# Altium integrated library Capacitor - Ceramic - Sumsung.IntLib: 1421 symbols (part 18 of 22)
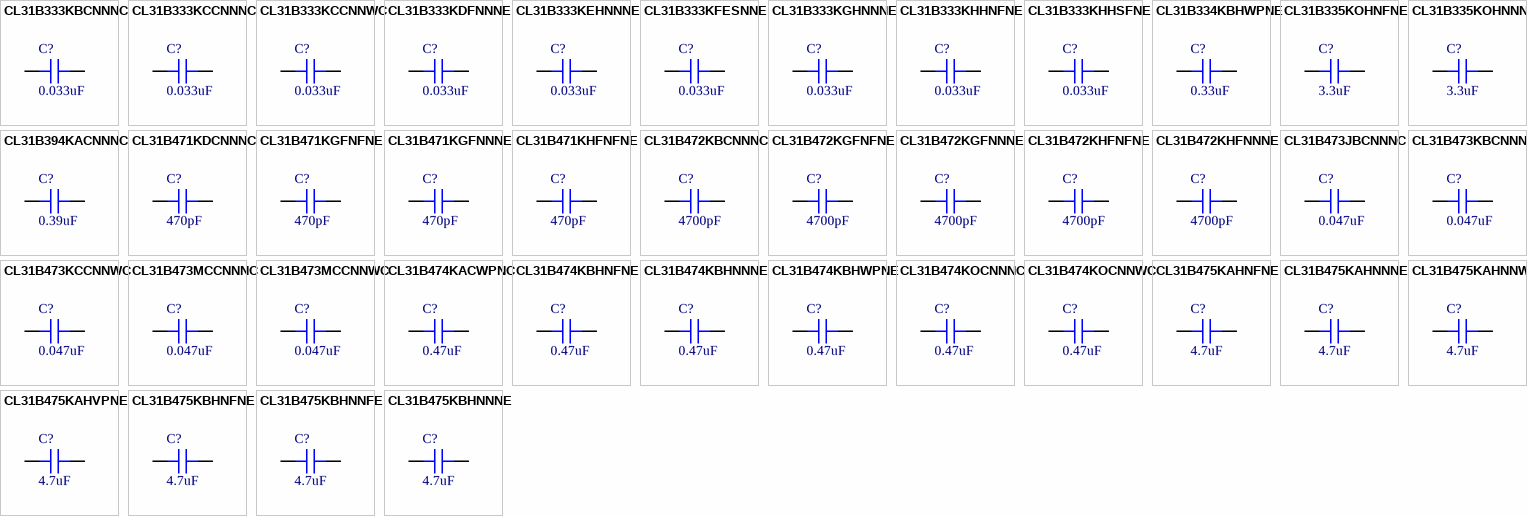
[diagram p52: symbols CL31B333KBCNNNC to CL31B475KBHNNNE]

## CL31B472KBCNNNC
designator C?, comment 4700pF
CAP CER 4700PF 50V X7R 1206; Part Number: CL31B472KBCNNNC; Manufacturer: Samsung Electro-Mechanics America, Inc.; TemperatureRange: -55C ~ 125C; Tolerance: 10%; Value: 4700pF; PartId: 17145; Supplier 1: Digi-Key; Supplier Part Number 1: 1276-1309-2-ND; ComponentLink1Description: Datasheet; ComponentLink1URL: http://www.samsungsem.com/kr/support/product-search/mlcc/__icsFiles/afieldfile/2016/08/18/S_CL31B472KBCNNNC.pdf; ComponentLink2Description: Digi-Key Listing; ComponentLink2URL: https://www.digikey.com/product-detail/en/samsung-electro-mechanics-america-inc/CL31B472KBCNNNC/1276-1309-2-ND/3886967; TemperatureCoefficient: X7R; Voltage: 50V; Price: 0.0297; Device Package: 1206 (3216 Metric)
footprint CAP 1206/3216 - 1.0MM
pins: 1, 2

## CL31B472KGFNFNE
designator C?, comment 4700pF
CAP CER 4700PF 500V X7R 1206; Part Number: CL31B472KGFNFNE; Manufacturer: Samsung Electro-Mechanics America, Inc.; TemperatureRange: -55C ~ 125C; Tolerance: 10%; Value: 4700pF; PartId: 15504; Supplier 1: Digi-Key; Supplier Part Number 1: 1276-3166-2-ND; ComponentLink1Description: Datasheet; ComponentLink1URL: //media.digikey.com/pdf/Data%20Sheets/Samsung%20PDFs/CL31B472KGFNFNE_Spec.pdf; ComponentLink2Description: Digi-Key Listing; ComponentLink2URL: https://www.digikey.com/product-detail/en/samsung-electro-mechanics-america-inc/CL31B472KGFNFNE/1276-3166-2-ND/3888824; TemperatureCoefficient: X7R; Voltage: 500V; Price: 0.053; Device Package: 1206 (3216 Metric)
footprint CAP 1206/3216
pins: 1, 2

## CL31B472KGFNNNE
designator C?, comment 4700pF
CAP CER 4700PF 500V X7R 1206; Part Number: CL31B472KGFNNNE; Manufacturer: Samsung Electro-Mechanics America, Inc.; TemperatureRange: -55C ~ 125C; Tolerance: 10%; Value: 4700pF; PartId: 15406; Supplier 1: Digi-Key; Supplier Part Number 1: 1276-3167-2-ND; ComponentLink1Description: Datasheet; ComponentLink1URL: //media.digikey.com/pdf/Data%20Sheets/Samsung%20PDFs/CL31B472KGFNNNE_Spec.pdf; ComponentLink2Description: Digi-Key Listing; ComponentLink2URL: https://www.digikey.com/product-detail/en/samsung-electro-mechanics-america-inc/CL31B472KGFNNNE/1276-3167-2-ND/3888825; TemperatureCoefficient: X7R; Voltage: 500V; Price: 0.053; Device Package: 1206 (3216 Metric)
footprint CAP 1206/3216
pins: 1, 2

## CL31B472KHFNFNE
designator C?, comment 4700pF
CAP CER 4700PF 630V X7R 1206; Part Number: CL31B472KHFNFNE; Manufacturer: Samsung Electro-Mechanics America, Inc.; TemperatureRange: -55C ~ 125C; Tolerance: 10%; Value: 4700pF; PartId: 15480; Supplier 1: Digi-Key; Supplier Part Number 1: 1276-3168-2-ND; ComponentLink1Description: Datasheet; ComponentLink1URL: //media.digikey.com/pdf/Data%20Sheets/Samsung%20PDFs/CL31B472KHFNFNE_Spec.pdf; ComponentLink2Description: Digi-Key Listing; ComponentLink2URL: https://www.digikey.com/product-detail/en/samsung-electro-mechanics-america-inc/CL31B472KHFNFNE/1276-3168-2-ND/3888826; TemperatureCoefficient: X7R; Voltage: 630V; Price: 0.054; Device Package: 1206 (3216 Metric)
footprint CAP 1206/3216
pins: 1, 2

## CL31B472KHFNNNE
designator C?, comment 4700pF
CAP CER 4700PF 630V X7R 1206; Part Number: CL31B472KHFNNNE; Manufacturer: Samsung Electro-Mechanics America, Inc.; TemperatureRange: -55C ~ 125C; Tolerance: 10%; Value: 4700pF; PartId: 15481; Supplier 1: Digi-Key; Supplier Part Number 1: 1276-3169-2-ND; ComponentLink1Description: Datasheet; ComponentLink1URL: //media.digikey.com/pdf/Data%20Sheets/Samsung%20PDFs/CL31B472KHFNNNE_Spec.pdf; ComponentLink2Description: Digi-Key Listing; ComponentLink2URL: https://www.digikey.com/product-detail/en/samsung-electro-mechanics-america-inc/CL31B472KHFNNNE/1276-3169-2-ND/3888827; TemperatureCoefficient: X7R; Voltage: 630V; Price: 0.054; Device Package: 1206 (3216 Metric)
footprint CAP 1206/3216
pins: 1, 2

## CL31B473JBCNNNC
designator C?, comment 0.047uF
CAP CER 0.047UF 50V X7R 1206; Part Number: CL31B473JBCNNNC; Manufacturer: Samsung Electro-Mechanics America, Inc.; TemperatureRange: -55C ~ 125C; Tolerance: 5%; Value: 0.047uF; PartId: 17101; Supplier 1: Digi-Key; Supplier Part Number 1: 1276-2781-2-ND; ComponentLink1Description: Datasheet; ComponentLink1URL: http://www.samsungsem.com/kr/support/product-search/mlcc/__icsFiles/afieldfile/2016/08/18/S_CL31B473JBCNNNC.pdf; ComponentLink2Description: Digi-Key Listing; ComponentLink2URL: https://www.digikey.com/product-detail/en/samsung-electro-mechanics-america-inc/CL31B473JBCNNNC/1276-2781-2-ND/3888439; TemperatureCoefficient: X7R; Voltage: 50V; Price: 0.0697; Device Package: 1206 (3216 Metric)
footprint CAP 1206/3216 - 1.0MM
pins: 1, 2

## CL31B473KBCNNNC
designator C?, comment 0.047uF
CAP CER 0.047UF 50V X7R 1206; Part Number: CL31B473KBCNNNC; Manufacturer: Samsung Electro-Mechanics America, Inc.; TemperatureRange: -55C ~ 125C; Tolerance: 10%; Value: 0.047uF; PartId: 16998; Supplier 1: Digi-Key; Supplier Part Number 1: 1276-1149-2-ND; ComponentLink1Description: Datasheet; ComponentLink1URL: http://www.samsungsem.com/kr/support/product-search/mlcc/__icsFiles/afieldfile/2016/08/18/S_CL31B473KBCNNNC.pdf; ComponentLink2Description: Digi-Key Listing; ComponentLink2URL: https://www.digikey.com/product-detail/en/samsung-electro-mechanics-america-inc/CL31B473KBCNNNC/1276-1149-2-ND/3886807; TemperatureCoefficient: X7R; Voltage: 50V; Price: 0.0371; Device Package: 1206 (3216 Metric)
footprint CAP 1206/3216 - 1.0MM
pins: 1, 2

## CL31B473KCCNNWC
designator C?, comment 0.047uF
CAP CER 0.047UF 100V X7R 1206; Part Number: CL31B473KCCNNWC; Manufacturer: Samsung Electro-Mechanics America, Inc.; TemperatureRange: -55C ~ 125C; Tolerance: 10%; Value: 0.047uF; PartId: 17278; Supplier 1: Digi-Key; Supplier Part Number 1: 1276-2783-2-ND; ComponentLink1Description: Datasheet; ComponentLink1URL: //media.digikey.com/pdf/Data%20Sheets/Samsung%20PDFs/CL31B473KCCNNWC_Spec.pdf; ComponentLink2Description: Digi-Key Listing; ComponentLink2URL: https://www.digikey.com/product-detail/en/samsung-electro-mechanics-america-inc/CL31B473KCCNNWC/1276-2783-2-ND/3888441; TemperatureCoefficient: X7R; Voltage: 100V; Price: 0.0467; Device Package: 1206 (3216 Metric)
footprint CAP 1206/3216 - 1.0MM
pins: 1, 2

## CL31B473MCCNNNC
designator C?, comment 0.047uF
CAP CER 0.047UF 100V X7R 1206; Part Number: CL31B473MCCNNNC; Manufacturer: Samsung Electro-Mechanics America, Inc.; TemperatureRange: -55C ~ 125C; Tolerance: 20%; Value: 0.047uF; PartId: 17277; Supplier 1: Digi-Key; Supplier Part Number 1: 1276-2785-2-ND; ComponentLink1Description: Datasheet; ComponentLink1URL: //media.digikey.com/pdf/Data%20Sheets/Samsung%20PDFs/MLCC_Catalog_2015.pdf; ComponentLink2Description: Digi-Key Listing; ComponentLink2URL: https://www.digikey.com/product-detail/en/samsung-electro-mechanics-america-inc/CL31B473MCCNNNC/1276-2785-2-ND/3888443; TemperatureCoefficient: X7R; Voltage: 100V; Price: 0.0467; Device Package: 1206 (3216 Metric)
footprint CAP 1206/3216 - 1.0MM
pins: 1, 2

## CL31B473MCCNNWC
designator C?, comment 0.047uF
CAP CER 0.047UF 100V X7R 1206; Part Number: CL31B473MCCNNWC; Manufacturer: Samsung Electro-Mechanics America, Inc.; TemperatureRange: -55C ~ 125C; Tolerance: 20%; Value: 0.047uF; PartId: 17308; Supplier 1: Digi-Key; Supplier Part Number 1: 1276-2786-2-ND; ComponentLink1Description: Datasheet; ComponentLink1URL: //media.digikey.com/pdf/Data%20Sheets/Samsung%20PDFs/CL31B473MCCNNWC_Spec.pdf; ComponentLink2Description: Digi-Key Listing; ComponentLink2URL: https://www.digikey.com/product-detail/en/samsung-electro-mechanics-america-inc/CL31B473MCCNNWC/1276-2786-2-ND/3888444; TemperatureCoefficient: X7R; Voltage: 100V; Price: 0.0433; Device Package: 1206 (3216 Metric)
footprint CAP 1206/3216 - 1.0MM
pins: 1, 2

## CL31B474KACWPNC
designator C?, comment 0.47uF
CAP CER 0.47UF 25V X7R 1206; Part Number: CL31B474KACWPNC; Manufacturer: Samsung Electro-Mechanics America, Inc.; TemperatureRange: -55C ~ 125C; Tolerance: 10%; Value: 0.47uF; PartId: 17354; Supplier 1: Digi-Key; Supplier Part Number 1: 1276-6732-2-ND; ComponentLink1Description: Datasheet; ComponentLink1URL: //media.digikey.com/pdf/Data%20Sheets/Samsung%20PDFs/MLCC_Catalog_2015.pdf; ComponentLink2Description: Digi-Key Listing; ComponentLink2URL: https://www.digikey.com/product-detail/en/samsung-electro-mechanics-america-inc/CL31B474KACWPNC/1276-6732-2-ND/5961216; TemperatureCoefficient: X7R; Voltage: 25V; Price: 0.0498; Device Package: 1206 (3216 Metric)
footprint CAP 1206/3216 - 1.0MM
pins: 1, 2

## CL31B474KBHNFNE
designator C?, comment 0.47uF
CAP CER 0.47UF 50V X7R 1206; Part Number: CL31B474KBHNFNE; Manufacturer: Samsung Electro-Mechanics America, Inc.; TemperatureRange: -55C ~ 125C; Tolerance: 10%; Value: 0.47uF; PartId: 17697; Supplier 1: Digi-Key; Supplier Part Number 1: 1276-3175-2-ND; ComponentLink1Description: Datasheet; ComponentLink1URL: //media.digikey.com/pdf/Data%20Sheets/Samsung%20PDFs/CL31B474KBHNFNE_Spec.pdf; ComponentLink2Description: Digi-Key Listing; ComponentLink2URL: https://www.digikey.com/product-detail/en/samsung-electro-mechanics-america-inc/CL31B474KBHNFNE/1276-3175-2-ND/3888833; TemperatureCoefficient: X7R; Voltage: 50V; Price: 0.06; Device Package: 1206 (3216 Metric)
footprint CAP 1206/3216 - 1.8MM
pins: 1, 2

## CL31B474KBHNNNE
designator C?, comment 0.47uF
CAP CER 0.47UF 50V X7R 1206; Part Number: CL31B474KBHNNNE; Manufacturer: Samsung Electro-Mechanics America, Inc.; TemperatureRange: -55C ~ 125C; Tolerance: 10%; Value: 0.47uF; PartId: 17394; Supplier 1: Digi-Key; Supplier Part Number 1: 1276-1118-2-ND; ComponentLink1Description: Datasheet; ComponentLink1URL: http://www.samsungsem.com/kr/support/product-search/mlcc/__icsFiles/afieldfile/2016/08/18/S_CL31B474KBHNNNE.pdf; ComponentLink2Description: Digi-Key Listing; ComponentLink2URL: https://www.digikey.com/product-detail/en/samsung-electro-mechanics-america-inc/CL31B474KBHNNNE/1276-1118-2-ND/3886776; TemperatureCoefficient: X7R; Voltage: 50V; Price: 0.06; Device Package: 1206 (3216 Metric)
footprint CAP 1206/3216 - 1.8MM
pins: 1, 2

## CL31B474KBHWPNE
designator C?, comment 0.47uF
CAP CER 0.47UF 50V X7R 1206; Part Number: CL31B474KBHWPNE; Manufacturer: Samsung Electro-Mechanics America, Inc.; TemperatureRange: -55C ~ 125C; Tolerance: 10%; Value: 0.47uF; PartId: 17585; Supplier 1: Digi-Key; Supplier Part Number 1: 1276-6743-2-ND; ComponentLink1Description: Datasheet; ComponentLink1URL: //media.digikey.com/pdf/Data%20Sheets/Samsung%20PDFs/MLCC_Catalog_2015.pdf; ComponentLink2Description: Digi-Key Listing; ComponentLink2URL: https://www.digikey.com/product-detail/en/samsung-electro-mechanics-america-inc/CL31B474KBHWPNE/1276-6743-2-ND/5961227; TemperatureCoefficient: X7R; Voltage: 50V; Price: 0.0662; Device Package: 1206 (3216 Metric)
footprint CAP 1206/3216 - 1.8MM
pins: 1, 2

## CL31B474KOCNNNC
designator C?, comment 0.47uF
CAP CER 0.47UF 16V X7R 1206; Part Number: CL31B474KOCNNNC; Manufacturer: Samsung Electro-Mechanics America, Inc.; TemperatureRange: -55C ~ 125C; Tolerance: 10%; Value: 0.47uF; PartId: 17281; Supplier 1: Digi-Key; Supplier Part Number 1: 1276-2787-2-ND; ComponentLink1Description: Datasheet; ComponentLink1URL: http://www.samsungsem.com/kr/support/product-search/mlcc/__icsFiles/afieldfile/2016/08/18/S_CL31B474KOCNNNC.pdf; ComponentLink2Description: Digi-Key Listing; ComponentLink2URL: https://www.digikey.com/product-detail/en/samsung-electro-mechanics-america-inc/CL31B474KOCNNNC/1276-2787-2-ND/3888445; TemperatureCoefficient: X7R; Voltage: 16V; Price: 0.0545; Device Package: 1206 (3216 Metric)
footprint CAP 1206/3216 - 1.0MM
pins: 1, 2

## CL31B474KOCNNWC
designator C?, comment 0.47uF
CAP CER 0.47UF 16V X7R 1206; Part Number: CL31B474KOCNNWC; Manufacturer: Samsung Electro-Mechanics America, Inc.; TemperatureRange: -55C ~ 125C; Tolerance: 10%; Value: 0.47uF; PartId: 17276; Supplier 1: Digi-Key; Supplier Part Number 1: 1276-2788-2-ND; ComponentLink1Description: Datasheet; ComponentLink1URL: http://www.samsungsem.com/kr/support/product-search/mlcc/__icsFiles/afieldfile/2016/08/18/S_CL31B474KOCNNWC.pdf; ComponentLink2Description: Digi-Key Listing; ComponentLink2URL: https://www.digikey.com/product-detail/en/samsung-electro-mechanics-america-inc/CL31B474KOCNNWC/1276-2788-2-ND/3888446; TemperatureCoefficient: X7R; Voltage: 16V; Price: 0.0545; Device Package: 1206 (3216 Metric)
footprint CAP 1206/3216 - 1.0MM
pins: 1, 2

## CL31B475KAHNFNE
designator C?, comment 4.7uF
CAP CER 4.7UF 25V X7R 1206; Part Number: CL31B475KAHNFNE; Manufacturer: Samsung Electro-Mechanics America, Inc.; TemperatureRange: -55C ~ 125C; Tolerance: 10%; Value: 4.7uF; PartId: 17973; Supplier 1: Digi-Key; Supplier Part Number 1: 1276-3177-2-ND; ComponentLink1Description: Datasheet; ComponentLink1URL: //media.digikey.com/pdf/Data%20Sheets/Samsung%20PDFs/CL31B475KAHNFNE_Spec.pdf; ComponentLink2Description: Digi-Key Listing; ComponentLink2URL: https://www.digikey.com/product-detail/en/samsung-electro-mechanics-america-inc/CL31B475KAHNFNE/1276-3177-2-ND/3888835; TemperatureCoefficient: X7R; Voltage: 25V; Price: 0.0761; Device Package: 1206 (3216 Metric)
footprint CAP 1206/3216 - 1.8MM
pins: 1, 2

## CL31B475KAHNNNE
designator C?, comment 4.7uF
CAP CER 4.7UF 25V X7R 1206; Part Number: CL31B475KAHNNNE; Manufacturer: Samsung Electro-Mechanics America, Inc.; TemperatureRange: -55C ~ 125C; Tolerance: 10%; Value: 4.7uF; PartId: 17424; Supplier 1: Digi-Key; Supplier Part Number 1: 1276-1055-2-ND; ComponentLink1Description: Datasheet; ComponentLink1URL: http://www.samsungsem.com/kr/front/downloadcms.do?path=/kr/support/product-search/mlcc/__icsFiles/afieldfile/2014/11/05&fileName=C_CL31B475KAHNNNE.pdf; ComponentLink2Description: Digi-Key Listing; ComponentLink2URL: https://www.digikey.com/product-detail/en/samsung-electro-mechanics-america-inc/CL31B475KAHNNNE/1276-1055-2-ND/3886713; TemperatureCoefficient: X7R; Voltage: 25V; Price: 0.0761; Device Package: 1206 (3216 Metric)
footprint CAP 1206/3216 - 1.8MM
pins: 1, 2

## CL31B475KAHNNWE
designator C?, comment 4.7uF
CAP CER 4.7UF 25V X7R 1206; Part Number: CL31B475KAHNNWE; Manufacturer: Samsung Electro-Mechanics America, Inc.; TemperatureRange: -55C ~ 125C; Tolerance: 10%; Value: 4.7uF; PartId: 17895; Supplier 1: Digi-Key; Supplier Part Number 1: 1276-3178-2-ND; ComponentLink1Description: Datasheet; ComponentLink1URL: http://www.samsungsem.com/kr/front/downloadcms.do?path=/kr/support/product-search/mlcc/__icsFiles/afieldfile/2014/11/05&fileName=C_CL31B475KAHNNWE.pdf; ComponentLink2Description: Digi-Key Listing; ComponentLink2URL: https://www.digikey.com/product-detail/en/samsung-electro-mechanics-america-inc/CL31B475KAHNNWE/1276-3178-2-ND/3888836; TemperatureCoefficient: X7R; Voltage: 25V; Price: 0.0761; Device Package: 1206 (3216 Metric)
footprint CAP 1206/3216 - 1.8MM
pins: 1, 2

## CL31B475KAHVPNE
designator C?, comment 4.7uF
CAP CER 4.7UF 25V X7R 1206; Part Number: CL31B475KAHVPNE; Manufacturer: Samsung Electro-Mechanics America, Inc.; TemperatureRange: -55C ~ 125C; Tolerance: 10%; Value: 4.7uF; PartId: 17757; Supplier 1: Digi-Key; Supplier Part Number 1: 1276-6706-2-ND; ComponentLink1Description: Datasheet; ComponentLink1URL: //media.digikey.com/pdf/Data%20Sheets/Samsung%20PDFs/MLCC_Catalog_2015.pdf; ComponentLink2Description: Digi-Key Listing; ComponentLink2URL: https://www.digikey.com/product-detail/en/samsung-electro-mechanics-america-inc/CL31B475KAHVPNE/1276-6706-2-ND/5961190; TemperatureCoefficient: X7R; Voltage: 25V; Price: 0.0851; Device Package: 1206 (3216 Metric)
footprint CAP 1206/3216 - 1.8MM
pins: 1, 2

## CL31B475KBHNFNE
designator C?, comment 4.7uF
CAP CER 4.7UF 50V X7R 1206; Part Number: CL31B475KBHNFNE; Manufacturer: Samsung Electro-Mechanics America, Inc.; TemperatureRange: -55C ~ 125C; Tolerance: 10%; Value: 4.7uF; PartId: 17560; Supplier 1: Digi-Key; Supplier Part Number 1: 1276-3179-2-ND; ComponentLink1Description: Datasheet; ComponentLink1URL: //media.digikey.com/pdf/Data%20Sheets/Samsung%20PDFs/CL31B475KBHNFNE_Spec.pdf; ComponentLink2Description: Digi-Key Listing; ComponentLink2URL: https://www.digikey.com/product-detail/en/samsung-electro-mechanics-america-inc/CL31B475KBHNFNE/1276-3179-2-ND/3888837; TemperatureCoefficient: X7R; Voltage: 50V; Price: 0.1294; Device Package: 1206 (3216 Metric)
footprint CAP 1206/3216 - 1.8MM
pins: 1, 2

## CL31B475KBHNNFE
designator C?, comment 4.7uF
CAP CER 4.7UF 50V X7R 1206; Part Number: CL31B475KBHNNFE; Manufacturer: Samsung Electro-Mechanics America, Inc.; TemperatureRange: -55C ~ 125C; Tolerance: 10%; Value: 4.7uF; PartId: 17640; Supplier 1: Digi-Key; Supplier Part Number 1: 1276-3180-2-ND; ComponentLink1Description: Datasheet; ComponentLink1URL: http://www.samsungsem.com/kr/support/product-search/mlcc/__icsFiles/afieldfile/2016/08/18/S_CL31B475KBHNNFE.pdf; ComponentLink2Description: Digi-Key Listing; ComponentLink2URL: https://www.digikey.com/product-detail/en/samsung-electro-mechanics-america-inc/CL31B475KBHNNFE/1276-3180-2-ND/3888838; TemperatureCoefficient: X7R; Voltage: 50V; Price: 0.1625; Device Package: 1206 (3216 Metric)
footprint CAP 1206/3216 - 1.8MM
pins: 1, 2

## CL31B475KBHNNNE
designator C?, comment 4.7uF
CAP CER 4.7UF 50V X7R 1206; Part Number: CL31B475KBHNNNE; Manufacturer: Samsung Electro-Mechanics America, Inc.; TemperatureRange: -55C ~ 125C; Tolerance: 10%; Value: 4.7uF; PartId: 17442; Supplier 1: Digi-Key; Supplier Part Number 1: 1276-2789-2-ND; ComponentLink1Description: Datasheet; ComponentLink1URL: http://www.samsungsem.com/kr/support/product-search/mlcc/__icsFiles/afieldfile/2016/08/18/S_CL31B475KBHNNNE.pdf; ComponentLink2Description: Digi-Key Listing; ComponentLink2URL: https://www.digikey.com/product-detail/en/samsung-electro-mechanics-america-inc/CL31B475KBHNNNE/1276-2789-2-ND/3888447; TemperatureCoefficient: X7R; Voltage: 50V; Price: 0.1053; Device Package: 1206 (3216 Metric)
footprint CAP 1206/3216 - 1.8MM
pins: 1, 2

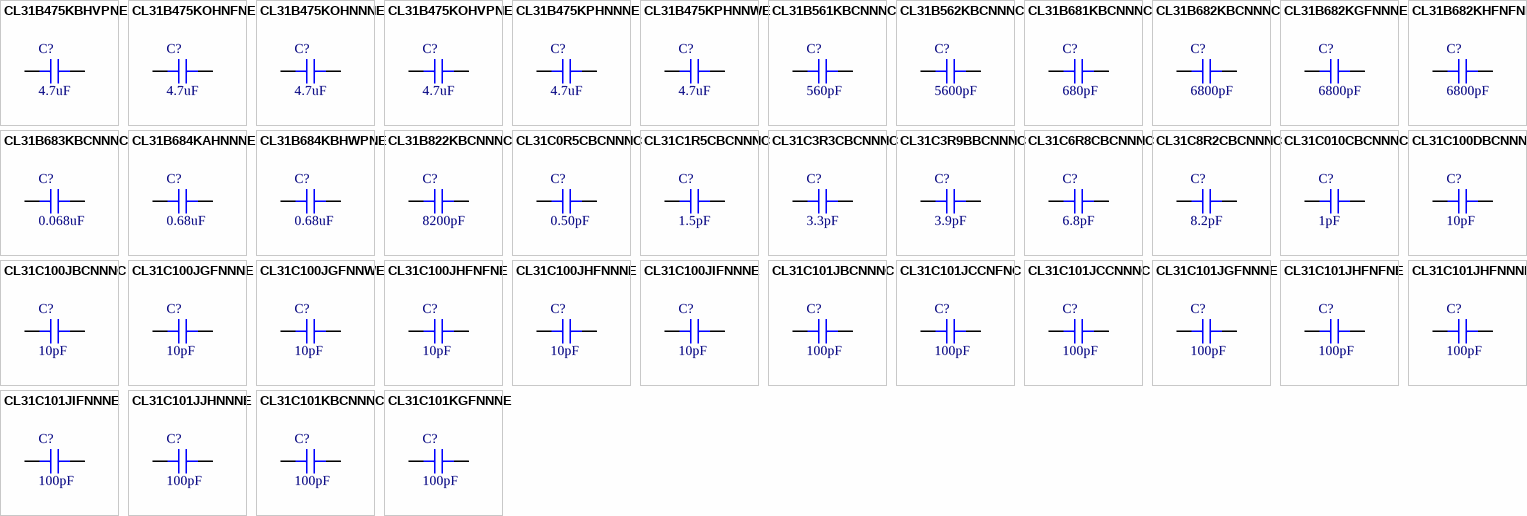
[diagram p29: symbols CL31B475KBHVPNE to CL31C101KGFNNNE]

## CL31B475KBHVPNE
designator C?, comment 4.7uF
CAP CER 4.7UF 50V X7R 1206; Part Number: CL31B475KBHVPNE; Manufacturer: Samsung Electro-Mechanics America, Inc.; TemperatureRange: -55C ~ 125C; Tolerance: 10%; Value: 4.7uF; PartId: 17453; Supplier 1: Digi-Key; Supplier Part Number 1: 1276-6781-2-ND; ComponentLink1Description: Datasheet; ComponentLink1URL: //media.digikey.com/pdf/Data%20Sheets/Samsung%20PDFs/MLCC_Catalog_2015.pdf; ComponentLink2Description: Digi-Key Listing; ComponentLink2URL: https://www.digikey.com/product-detail/en/samsung-electro-mechanics-america-inc/CL31B475KBHVPNE/1276-6781-2-ND/5961265; TemperatureCoefficient: X7R; Voltage: 50V; Price: 0.1446; Device Package: 1206 (3216 Metric)
footprint CAP 1206/3216 - 1.8MM
pins: 1, 2

## CL31B475KOHNFNE
designator C?, comment 4.7uF
CAP CER 4.7UF 16V X7R 1206; Part Number: CL31B475KOHNFNE; Manufacturer: Samsung Electro-Mechanics America, Inc.; TemperatureRange: -55C ~ 125C; Tolerance: 10%; Value: 4.7uF; PartId: 17972; Supplier 1: Digi-Key; Supplier Part Number 1: 1276-3181-2-ND; ComponentLink1Description: Datasheet; ComponentLink1URL: //media.digikey.com/pdf/Data%20Sheets/Samsung%20PDFs/CL31B475KOHNFNE_Spec.pdf; ComponentLink2Description: Digi-Key Listing; ComponentLink2URL: https://www.digikey.com/product-detail/en/samsung-electro-mechanics-america-inc/CL31B475KOHNFNE/1276-3181-2-ND/3888839; TemperatureCoefficient: X7R; Voltage: 16V; Price: 0.0761; Device Package: 1206 (3216 Metric)
footprint CAP 1206/3216 - 1.8MM
pins: 1, 2

## CL31B475KOHNNNE
designator C?, comment 4.7uF
CAP CER 4.7UF 16V X7R 1206; Part Number: CL31B475KOHNNNE; Manufacturer: Samsung Electro-Mechanics America, Inc.; TemperatureRange: -55C ~ 125C; Tolerance: 10%; Value: 4.7uF; PartId: 17971; Supplier 1: Digi-Key; Supplier Part Number 1: 1276-3182-2-ND; ComponentLink1Description: Datasheet; ComponentLink1URL: //media.digikey.com/pdf/Data%20Sheets/Samsung%20PDFs/CL31B475KOHNNNE_Spec.pdf; ComponentLink2Description: Digi-Key Listing; ComponentLink2URL: https://www.digikey.com/product-detail/en/samsung-electro-mechanics-america-inc/CL31B475KOHNNNE/1276-3182-2-ND/3888840; TemperatureCoefficient: X7R; Voltage: 16V; Price: 0.0761; Device Package: 1206 (3216 Metric)
footprint CAP 1206/3216 - 1.8MM
pins: 1, 2

## CL31B475KOHVPNE
designator C?, comment 4.7uF
CAP CER 4.7UF 16V X7R 1206; Part Number: CL31B475KOHVPNE; Manufacturer: Samsung Electro-Mechanics America, Inc.; TemperatureRange: -55C ~ 125C; Tolerance: 10%; Value: 4.7uF; PartId: 17752; Supplier 1: Digi-Key; Supplier Part Number 1: 1276-6723-2-ND; ComponentLink1Description: Datasheet; ComponentLink1URL: //media.digikey.com/pdf/Data%20Sheets/Samsung%20PDFs/MLCC_Catalog_2015.pdf; ComponentLink2Description: Digi-Key Listing; ComponentLink2URL: https://www.digikey.com/product-detail/en/samsung-electro-mechanics-america-inc/CL31B475KOHVPNE/1276-6723-2-ND/5961207; TemperatureCoefficient: X7R; Voltage: 16V; Price: 0.0958; Device Package: 1206 (3216 Metric)
footprint CAP 1206/3216 - 1.8MM
pins: 1, 2

## CL31B475KPHNNNE
designator C?, comment 4.7uF
CAP CER 4.7UF 10V X7R 1206; Part Number: CL31B475KPHNNNE; Manufacturer: Samsung Electro-Mechanics America, Inc.; TemperatureRange: -55C ~ 125C; Tolerance: 10%; Value: 4.7uF; PartId: 17410; Supplier 1: Digi-Key; Supplier Part Number 1: 1276-1133-2-ND; ComponentLink1Description: Datasheet; ComponentLink1URL: http://www.samsungsem.com/kr/front/downloadcms.do?path=/kr/support/product-search/mlcc/__icsFiles/afieldfile/2014/11/05&fileName=C_CL31B475KPHNNNE.pdf; ComponentLink2Description: Digi-Key Listing; ComponentLink2URL: https://www.digikey.com/product-detail/en/samsung-electro-mechanics-america-inc/CL31B475KPHNNNE/1276-1133-2-ND/3886791; TemperatureCoefficient: X7R; Voltage: 10V; Price: 0.0761; Device Package: 1206 (3216 Metric)
footprint CAP 1206/3216 - 1.8MM
pins: 1, 2

## CL31B475KPHNNWE
designator C?, comment 4.7uF
CAP CER 4.7UF 10V X7R 1206; Part Number: CL31B475KPHNNWE; Manufacturer: Samsung Electro-Mechanics America, Inc.; TemperatureRange: -55C ~ 125C; Tolerance: 10%; Value: 4.7uF; PartId: 17894; Supplier 1: Digi-Key; Supplier Part Number 1: 1276-3183-2-ND; ComponentLink1Description: Datasheet; ComponentLink1URL: //media.digikey.com/pdf/Data%20Sheets/Samsung%20PDFs/CL31B475KPHNNWE_Spec.pdf; ComponentLink2Description: Digi-Key Listing; ComponentLink2URL: https://www.digikey.com/product-detail/en/samsung-electro-mechanics-america-inc/CL31B475KPHNNWE/1276-3183-2-ND/3888841; TemperatureCoefficient: X7R; Voltage: 10V; Price: 0.0761; Device Package: 1206 (3216 Metric)
footprint CAP 1206/3216 - 1.8MM
pins: 1, 2

## CL31B561KBCNNNC
designator C?, comment 560pF
CAP CER 560PF 50V X7R 1206; Part Number: CL31B561KBCNNNC; Manufacturer: Samsung Electro-Mechanics America, Inc.; TemperatureRange: -55C ~ 125C; Tolerance: 10%; Value: 560pF; PartId: 17156; Supplier 1: Digi-Key; Supplier Part Number 1: 1276-2790-2-ND; ComponentLink1Description: Datasheet; ComponentLink1URL: http://www.samsungsem.com/kr/support/product-search/mlcc/__icsFiles/afieldfile/2016/08/18/S_CL31B561KBCNNNC.pdf; ComponentLink2Description: Digi-Key Listing; ComponentLink2URL: https://www.digikey.com/product-detail/en/samsung-electro-mechanics-america-inc/CL31B561KBCNNNC/1276-2790-2-ND/3888448; TemperatureCoefficient: X7R; Voltage: 50V; Price: 0.0369; Device Package: 1206 (3216 Metric)
footprint CAP 1206/3216 - 1.0MM
pins: 1, 2

## CL31B562KBCNNNC
designator C?, comment 5600pF
CAP CER 5600PF 50V X7R 1206; Part Number: CL31B562KBCNNNC; Manufacturer: Samsung Electro-Mechanics America, Inc.; TemperatureRange: -55C ~ 125C; Tolerance: 10%; Value: 5600pF; PartId: 17286; Supplier 1: Digi-Key; Supplier Part Number 1: 1276-2791-2-ND; ComponentLink1Description: Datasheet; ComponentLink1URL: http://www.samsungsem.com/kr/support/product-search/mlcc/__icsFiles/afieldfile/2016/08/18/S_CL31B562KBCNNNC.pdf; ComponentLink2Description: Digi-Key Listing; ComponentLink2URL: https://www.digikey.com/product-detail/en/samsung-electro-mechanics-america-inc/CL31B562KBCNNNC/1276-2791-2-ND/3888449; TemperatureCoefficient: X7R; Voltage: 50V; Price: 0.0369; Device Package: 1206 (3216 Metric)
footprint CAP 1206/3216 - 1.0MM
pins: 1, 2

## CL31B681KBCNNNC
designator C?, comment 680pF
CAP CER 680PF 50V X7R 1206; Part Number: CL31B681KBCNNNC; Manufacturer: Samsung Electro-Mechanics America, Inc.; TemperatureRange: -55C ~ 125C; Tolerance: 10%; Value: 680pF; PartId: 17294; Supplier 1: Digi-Key; Supplier Part Number 1: 1276-2792-2-ND; ComponentLink1Description: Datasheet; ComponentLink1URL: http://www.samsungsem.com/kr/support/product-search/mlcc/__icsFiles/afieldfile/2016/08/18/S_CL31B681KBCNNNC.pdf; ComponentLink2Description: Digi-Key Listing; ComponentLink2URL: https://www.digikey.com/product-detail/en/samsung-electro-mechanics-america-inc/CL31B681KBCNNNC/1276-2792-2-ND/3888450; TemperatureCoefficient: X7R; Voltage: 50V; Price: 0.0302; Device Package: 1206 (3216 Metric)
footprint CAP 1206/3216 - 1.0MM
pins: 1, 2

## CL31B682KBCNNNC
designator C?, comment 6800pF
CAP CER 6800PF 50V X7R 1206; Part Number: CL31B682KBCNNNC; Manufacturer: Samsung Electro-Mechanics America, Inc.; TemperatureRange: -55C ~ 125C; Tolerance: 10%; Value: 6800pF; PartId: 17157; Supplier 1: Digi-Key; Supplier Part Number 1: 1276-1775-2-ND; ComponentLink1Description: Datasheet; ComponentLink1URL: http://www.samsungsem.com/kr/support/product-search/mlcc/__icsFiles/afieldfile/2016/08/18/S_CL31B682KBCNNNC.pdf; ComponentLink2Description: Digi-Key Listing; ComponentLink2URL: https://www.digikey.com/product-detail/en/samsung-electro-mechanics-america-inc/CL31B682KBCNNNC/1276-1775-2-ND/3887433; TemperatureCoefficient: X7R; Voltage: 50V; Price: 0.0369; Device Package: 1206 (3216 Metric)
footprint CAP 1206/3216 - 1.0MM
pins: 1, 2

## CL31B682KGFNNNE
designator C?, comment 6800pF
CAP CER 6800PF 500V X7R 1206; Part Number: CL31B682KGFNNNE; Manufacturer: Samsung Electro-Mechanics America, Inc.; TemperatureRange: -55C ~ 125C; Tolerance: 10%; Value: 6800pF; PartId: 15464; Supplier 1: Digi-Key; Supplier Part Number 1: 1276-3187-2-ND; ComponentLink1Description: Datasheet; ComponentLink1URL: //media.digikey.com/pdf/Data%20Sheets/Samsung%20PDFs/CL31B682KGFNNNE_Spec.pdf; ComponentLink2Description: Digi-Key Listing; ComponentLink2URL: https://www.digikey.com/product-detail/en/samsung-electro-mechanics-america-inc/CL31B682KGFNNNE/1276-3187-2-ND/3888845; TemperatureCoefficient: X7R; Voltage: 500V; Price: 0.072; Device Package: 1206 (3216 Metric)
footprint CAP 1206/3216
pins: 1, 2

## CL31B682KHFNFNE
designator C?, comment 6800pF
CAP CER 6800PF 630V X7R 1206; Part Number: CL31B682KHFNFNE; Manufacturer: Samsung Electro-Mechanics America, Inc.; TemperatureRange: -55C ~ 125C; Tolerance: 10%; Value: 6800pF; PartId: 15484; Supplier 1: Digi-Key; Supplier Part Number 1: 1276-3188-2-ND; ComponentLink1Description: Datasheet; ComponentLink1URL: //media.digikey.com/pdf/Data%20Sheets/Samsung%20PDFs/CL31B682KHFNFNE_Spec.pdf; ComponentLink2Description: Digi-Key Listing; ComponentLink2URL: https://www.digikey.com/product-detail/en/samsung-electro-mechanics-america-inc/CL31B682KHFNFNE/1276-3188-2-ND/3888846; TemperatureCoefficient: X7R; Voltage: 630V; Price: 0.0741; Device Package: 1206 (3216 Metric)
footprint CAP 1206/3216
pins: 1, 2

## CL31B683KBCNNNC
designator C?, comment 0.068uF
CAP CER 0.068UF 50V X7R 1206; Part Number: CL31B683KBCNNNC; Manufacturer: Samsung Electro-Mechanics America, Inc.; TemperatureRange: -55C ~ 125C; Tolerance: 10%; Value: 0.068uF; PartId: 17154; Supplier 1: Digi-Key; Supplier Part Number 1: 1276-1842-2-ND; ComponentLink1Description: Datasheet; ComponentLink1URL: http://www.samsungsem.com/kr/support/product-search/mlcc/__icsFiles/afieldfile/2016/08/18/S_CL31B683KBCNNNC.pdf; ComponentLink2Description: Digi-Key Listing; ComponentLink2URL: https://www.digikey.com/product-detail/en/samsung-electro-mechanics-america-inc/CL31B683KBCNNNC/1276-1842-2-ND/3887500; TemperatureCoefficient: X7R; Voltage: 50V; Price: 0.0502; Device Package: 1206 (3216 Metric)
footprint CAP 1206/3216 - 1.0MM
pins: 1, 2

## CL31B684KAHNNNE
designator C?, comment 0.68uF
CAP CER 0.68UF 25V X7R 1206; Part Number: CL31B684KAHNNNE; Manufacturer: Samsung Electro-Mechanics America, Inc.; TemperatureRange: -55C ~ 125C; Tolerance: 10%; Value: 0.68uF; PartId: 17547; Supplier 1: Digi-Key; Supplier Part Number 1: 1276-3189-2-ND; ComponentLink1Description: Datasheet; ComponentLink1URL: http://www.samsungsem.com/kr/support/product-search/mlcc/__icsFiles/afieldfile/2016/08/18/S_CL31B684KAHNNNE.pdf; ComponentLink2Description: Digi-Key Listing; ComponentLink2URL: https://www.digikey.com/product-detail/en/samsung-electro-mechanics-america-inc/CL31B684KAHNNNE/1276-3189-2-ND/3888847; TemperatureCoefficient: X7R; Voltage: 25V; Price: 0.0902; Device Package: 1206 (3216 Metric)
footprint CAP 1206/3216 - 1.8MM
pins: 1, 2

## CL31B684KBHWPNE
designator C?, comment 0.68uF
CAP CER 0.68UF 50V X7R 1206; Part Number: CL31B684KBHWPNE; Manufacturer: Samsung Electro-Mechanics America, Inc.; TemperatureRange: -55C ~ 125C; Tolerance: 10%; Value: 0.68uF; PartId: 17584; Supplier 1: Digi-Key; Supplier Part Number 1: 1276-6871-2-ND; ComponentLink1Description: Datasheet; ComponentLink1URL: //media.digikey.com/pdf/Data%20Sheets/Samsung%20PDFs/MLCC_Catalog_2015.pdf; ComponentLink2Description: Digi-Key Listing; ComponentLink2URL: https://www.digikey.com/product-detail/en/samsung-electro-mechanics-america-inc/CL31B684KBHWPNE/1276-6871-2-ND/5961355; TemperatureCoefficient: X7R; Voltage: 50V; Price: 0.078; Device Package: 1206 (3216 Metric)
footprint CAP 1206/3216 - 1.8MM
pins: 1, 2

## CL31B822KBCNNNC
designator C?, comment 8200pF
CAP CER 8200PF 50V X7R 1206; Part Number: CL31B822KBCNNNC; Manufacturer: Samsung Electro-Mechanics America, Inc.; TemperatureRange: -55C ~ 125C; Tolerance: 10%; Value: 8200pF; PartId: 17155; Supplier 1: Digi-Key; Supplier Part Number 1: 1276-2795-2-ND; ComponentLink1Description: Datasheet; ComponentLink1URL: http://www.samsungsem.com/kr/support/product-search/mlcc/__icsFiles/afieldfile/2016/08/18/S_CL31B822KBCNNNC.pdf; ComponentLink2Description: Digi-Key Listing; ComponentLink2URL: https://www.digikey.com/product-detail/en/samsung-electro-mechanics-america-inc/CL31B822KBCNNNC/1276-2795-2-ND/3888453; TemperatureCoefficient: X7R; Voltage: 50V; Price: 0.0369; Device Package: 1206 (3216 Metric)
footprint CAP 1206/3216 - 1.0MM
pins: 1, 2

## CL31C0R5CBCNNNC
designator C?, comment 0.50pF
CAP CER 0.5PF 50V NP0 1206; Part Number: CL31C0R5CBCNNNC; Manufacturer: Samsung Electro-Mechanics America, Inc.; TemperatureRange: -55C ~ 125C; TemperatureCoefficient: C0G, NP0; Tolerance: 0.25pF; Value: 0.50pF; PartId: 17013; Supplier 1: Digi-Key; Supplier Part Number 1: 1276-1158-2-ND; ComponentLink1Description: Datasheet; ComponentLink1URL: http://www.samsungsem.com/kr/support/product-search/mlcc/__icsFiles/afieldfile/2016/08/18/S_CL31C0R5CBCNNNC.pdf; ComponentLink2Description: Digi-Key Listing; ComponentLink2URL: https://www.digikey.com/product-detail/en/samsung-electro-mechanics-america-inc/CL31C0R5CBCNNNC/1276-1158-2-ND/3886816; Voltage: 50V; Price: 0.035; Device Package: 1206 (3216 Metric)
footprint CAP 1206/3216 - 1.0MM
pins: 1, 2

## CL31C1R5CBCNNNC
designator C?, comment 1.5pF
CAP CER 1.5PF 50V NP0 1206; Part Number: CL31C1R5CBCNNNC; Manufacturer: Samsung Electro-Mechanics America, Inc.; TemperatureRange: -55C ~ 125C; TemperatureCoefficient: C0G, NP0; Tolerance: 0.25pF; Value: 1.5pF; PartId: 17274; Supplier 1: Digi-Key; Supplier Part Number 1: 1276-2817-2-ND; ComponentLink1Description: Datasheet; ComponentLink1URL: //media.digikey.com/pdf/Data%20Sheets/Samsung%20PDFs/CL31C1R5CBCNNNC.pdf; ComponentLink2Description: Digi-Key Listing; ComponentLink2URL: https://www.digikey.com/product-detail/en/samsung-electro-mechanics-america-inc/CL31C1R5CBCNNNC/1276-2817-2-ND/3888475; Voltage: 50V; Price: 0.0131; Device Package: 1206 (3216 Metric)
footprint CAP 1206/3216 - 1.0MM
pins: 1, 2

## CL31C3R3CBCNNNC
designator C?, comment 3.3pF
CAP CER 3.3PF 50V NP0 1206; Part Number: CL31C3R3CBCNNNC; Manufacturer: Samsung Electro-Mechanics America, Inc.; TemperatureRange: -55C ~ 125C; TemperatureCoefficient: C0G, NP0; Tolerance: 0.25pF; Value: 3.3pF; PartId: 17291; Supplier 1: Digi-Key; Supplier Part Number 1: 1276-2835-2-ND; ComponentLink1Description: Datasheet; ComponentLink1URL: http://www.samsungsem.com/kr/support/product-search/mlcc/__icsFiles/afieldfile/2016/08/18/S_CL31C3R3CBCNNNC.pdf; ComponentLink2Description: Digi-Key Listing; ComponentLink2URL: https://www.digikey.com/product-detail/en/samsung-electro-mechanics-america-inc/CL31C3R3CBCNNNC/1276-2835-2-ND/3888493; Voltage: 50V; Price: 0.0341; Device Package: 1206 (3216 Metric)
footprint CAP 1206/3216 - 1.0MM
pins: 1, 2

## CL31C3R9BBCNNNC
designator C?, comment 3.9pF
CAP CER 3.9PF 50V NP0 1206; Part Number: CL31C3R9BBCNNNC; Manufacturer: Samsung Electro-Mechanics America, Inc.; TemperatureRange: -55C ~ 125C; TemperatureCoefficient: C0G, NP0; Tolerance: 0.1pF; Value: 3.9pF; PartId: 17035; Supplier 1: Digi-Key; Supplier Part Number 1: 1276-1159-2-ND; ComponentLink1Description: Datasheet; ComponentLink1URL: http://www.samsungsem.com/kr/support/product-search/mlcc/__icsFiles/afieldfile/2016/08/18/S_CL31C3R9BBCNNNC.pdf; ComponentLink2Description: Digi-Key Listing; ComponentLink2URL: https://www.digikey.com/product-detail/en/samsung-electro-mechanics-america-inc/CL31C3R9BBCNNNC/1276-1159-2-ND/3886817; Voltage: 50V; Price: 0.0243; Device Package: 1206 (3216 Metric)
footprint CAP 1206/3216 - 1.0MM
pins: 1, 2

## CL31C6R8CBCNNNC
designator C?, comment 6.8pF
CAP CER 6.8PF 50V NP0 1206; Part Number: CL31C6R8CBCNNNC; Manufacturer: Samsung Electro-Mechanics America, Inc.; TemperatureRange: -55C ~ 125C; TemperatureCoefficient: C0G, NP0; Tolerance: 0.25pF; Value: 6.8pF; PartId: 17300; Supplier 1: Digi-Key; Supplier Part Number 1: 1276-2850-2-ND; ComponentLink1Description: Datasheet; ComponentLink1URL: http://www.samsungsem.com/kr/support/product-search/mlcc/__icsFiles/afieldfile/2016/08/18/S_CL31C6R8CBCNNNC.pdf; ComponentLink2Description: Digi-Key Listing; ComponentLink2URL: https://www.digikey.com/product-detail/en/samsung-electro-mechanics-america-inc/CL31C6R8CBCNNNC/1276-2850-2-ND/3888508; Voltage: 50V; Price: 0.0369; Device Package: 1206 (3216 Metric)
footprint CAP 1206/3216 - 1.0MM
pins: 1, 2

## CL31C8R2CBCNNNC
designator C?, comment 8.2pF
CAP CER 8.2PF 50V NP0 1206; Part Number: CL31C8R2CBCNNNC; Manufacturer: Samsung Electro-Mechanics America, Inc.; TemperatureRange: -55C ~ 125C; TemperatureCoefficient: C0G, NP0; Tolerance: 0.25pF; Value: 8.2pF; PartId: 17282; Supplier 1: Digi-Key; Supplier Part Number 1: 1276-2853-2-ND; ComponentLink1Description: Datasheet; ComponentLink1URL: http://www.samsungsem.com/kr/support/product-search/mlcc/__icsFiles/afieldfile/2016/08/18/S_CL31C8R2CBCNNNC.pdf; ComponentLink2Description: Digi-Key Listing; ComponentLink2URL: https://www.digikey.com/product-detail/en/samsung-electro-mechanics-america-inc/CL31C8R2CBCNNNC/1276-2853-2-ND/3888511; Voltage: 50V; Price: 0.0516; Device Package: 1206 (3216 Metric)
footprint CAP 1206/3216 - 1.0MM
pins: 1, 2

## CL31C010CBCNNNC
designator C?, comment 1pF
CAP CER 1PF 50V NP0 1206; Part Number: CL31C010CBCNNNC; Manufacturer: Samsung Electro-Mechanics America, Inc.; TemperatureRange: -55C ~ 125C; TemperatureCoefficient: C0G, NP0; Tolerance: 0.25pF; Value: 1pF; PartId: 17301; Supplier 1: Digi-Key; Supplier Part Number 1: 1276-2796-2-ND; ComponentLink1Description: Datasheet; ComponentLink1URL: http://www.samsungsem.com/kr/support/product-search/mlcc/__icsFiles/afieldfile/2016/08/18/S_CL31C010CBCNNNC.pdf; ComponentLink2Description: Digi-Key Listing; ComponentLink2URL: https://www.digikey.com/product-detail/en/samsung-electro-mechanics-america-inc/CL31C010CBCNNNC/1276-2796-2-ND/3888454; Voltage: 50V; Price: 0.0369; Device Package: 1206 (3216 Metric)
footprint CAP 1206/3216 - 1.0MM
pins: 1, 2

## CL31C100DBCNNNC
designator C?, comment 10pF
CAP CER 10PF 50V NP0 1206; Part Number: CL31C100DBCNNNC; Manufacturer: Samsung Electro-Mechanics America, Inc.; TemperatureRange: -55C ~ 125C; TemperatureCoefficient: C0G, NP0; Tolerance: 0.5pF; Value: 10pF; PartId: 16958; Supplier 1: Digi-Key; Supplier Part Number 1: 1276-1083-2-ND; ComponentLink1Description: Datasheet; ComponentLink1URL: http://www.samsungsem.com/kr/support/product-search/mlcc/__icsFiles/afieldfile/2016/08/18/S_CL31C100DBCNNNC.pdf; ComponentLink2Description: Digi-Key Listing; ComponentLink2URL: https://www.digikey.com/product-detail/en/samsung-electro-mechanics-america-inc/CL31C100DBCNNNC/1276-1083-2-ND/3886741; Voltage: 50V; Price: 0.0339; Device Package: 1206 (3216 Metric)
footprint CAP 1206/3216 - 1.0MM
pins: 1, 2

## CL31C100JBCNNNC
designator C?, comment 10pF
CAP CER 10PF 50V NP0 1206; Part Number: CL31C100JBCNNNC; Manufacturer: Samsung Electro-Mechanics America, Inc.; TemperatureRange: -55C ~ 125C; TemperatureCoefficient: C0G, NP0; Tolerance: 5%; Value: 10pF; PartId: 17143; Supplier 1: Digi-Key; Supplier Part Number 1: 1276-1843-2-ND; ComponentLink1Description: Datasheet; ComponentLink1URL: http://www.samsungsem.com/kr/support/product-search/mlcc/__icsFiles/afieldfile/2016/08/18/S_CL31C100JBCNNNC.pdf; ComponentLink2Description: Digi-Key Listing; ComponentLink2URL: https://www.digikey.com/product-detail/en/samsung-electro-mechanics-america-inc/CL31C100JBCNNNC/1276-1843-2-ND/3887501; Voltage: 50V; Price: 0.0325; Device Package: 1206 (3216 Metric)
footprint CAP 1206/3216 - 1.0MM
pins: 1, 2

## CL31C100JGFNNNE
designator C?, comment 10pF
CAP CER 10PF 500V NP0 1206; Part Number: CL31C100JGFNNNE; Manufacturer: Samsung Electro-Mechanics America, Inc.; TemperatureRange: -55C ~ 125C; TemperatureCoefficient: C0G, NP0; Tolerance: 5%; Value: 10pF; PartId: 15489; Supplier 1: Digi-Key; Supplier Part Number 1: 1276-3191-2-ND; ComponentLink1Description: Datasheet; ComponentLink1URL: http://www.samsungsem.com/kr/support/product-search/mlcc/CL31C100JGFNNNE.jsp; ComponentLink2Description: Digi-Key Listing; ComponentLink2URL: https://www.digikey.com/product-detail/en/samsung-electro-mechanics-america-inc/CL31C100JGFNNNE/1276-3191-2-ND/3888849; Voltage: 500V; Price: 0.0278; Device Package: 1206 (3216 Metric)
footprint CAP 1206/3216
pins: 1, 2

## CL31C100JGFNNWE
designator C?, comment 10pF
CAP CER 10PF 500V NP0 1206; Part Number: CL31C100JGFNNWE; Manufacturer: Samsung Electro-Mechanics America, Inc.; TemperatureRange: -55C ~ 125C; TemperatureCoefficient: C0G, NP0; Tolerance: 5%; Value: 10pF; PartId: 15422; Supplier 1: Digi-Key; Supplier Part Number 1: 1276-3192-2-ND; ComponentLink1Description: Datasheet; ComponentLink1URL: http://www.samsungsem.com/kr/support/product-search/mlcc/CL31C100JGFNNWE.jsp; ComponentLink2Description: Digi-Key Listing; ComponentLink2URL: https://www.digikey.com/product-detail/en/samsung-electro-mechanics-america-inc/CL31C100JGFNNWE/1276-3192-2-ND/3888850; Voltage: 500V; Price: 0.0779; Device Package: 1206 (3216 Metric)
footprint CAP 1206/3216
pins: 1, 2

## CL31C100JHFNFNE
designator C?, comment 10pF
CAP CER 10PF 630V NP0 1206; Part Number: CL31C100JHFNFNE; Manufacturer: Samsung Electro-Mechanics America, Inc.; TemperatureRange: -55C ~ 125C; TemperatureCoefficient: C0G, NP0; Tolerance: 5%; Value: 10pF; PartId: 15500; Supplier 1: Digi-Key; Supplier Part Number 1: 1276-3193-2-ND; ComponentLink1Description: Datasheet; ComponentLink1URL: http://www.samsungsem.com/kr/support/product-search/mlcc/CL31C100JHFNFNE.jsp; ComponentLink2Description: Digi-Key Listing; ComponentLink2URL: https://www.digikey.com/product-detail/en/samsung-electro-mechanics-america-inc/CL31C100JHFNFNE/1276-3193-2-ND/3888851; Voltage: 630V; Price: 0.0779; Device Package: 1206 (3216 Metric)
footprint CAP 1206/3216
pins: 1, 2

## CL31C100JHFNNNE
designator C?, comment 10pF
CAP CER 10PF 630V NP0 1206; Part Number: CL31C100JHFNNNE; Manufacturer: Samsung Electro-Mechanics America, Inc.; TemperatureRange: -55C ~ 125C; TemperatureCoefficient: C0G, NP0; Tolerance: 5%; Value: 10pF; PartId: 15419; Supplier 1: Digi-Key; Supplier Part Number 1: 1276-3194-2-ND; ComponentLink1Description: Datasheet; ComponentLink1URL: http://www.samsungsem.com/kr/support/product-search/mlcc/CL31C100JHFNNNE.jsp; ComponentLink2Description: Digi-Key Listing; ComponentLink2URL: https://www.digikey.com/product-detail/en/samsung-electro-mechanics-america-inc/CL31C100JHFNNNE/1276-3194-2-ND/3888852; Voltage: 630V; Price: 0.0767; Device Package: 1206 (3216 Metric)
footprint CAP 1206/3216
pins: 1, 2

## CL31C100JIFNNNE
designator C?, comment 10pF
CAP CER 10PF 1KV NP0 1206; Part Number: CL31C100JIFNNNE; Manufacturer: Samsung Electro-Mechanics America, Inc.; TemperatureRange: -55C ~ 125C; TemperatureCoefficient: C0G, NP0; Tolerance: 5%; Voltage: 1000V (1kV); Value: 10pF; PartId: 15408; Supplier 1: Digi-Key; Supplier Part Number 1: 1276-3195-2-ND; ComponentLink1Description: Datasheet; ComponentLink1URL: http://www.samsungsem.com/kr/support/product-search/mlcc/CL31C100JIFNNNE.jsp; ComponentLink2Description: Digi-Key Listing; ComponentLink2URL: https://www.digikey.com/product-detail/en/samsung-electro-mechanics-america-inc/CL31C100JIFNNNE/1276-3195-2-ND/3888853; Price: 0.0547; Device Package: 1206 (3216 Metric)
footprint CAP 1206/3216
pins: 1, 2

## CL31C101JBCNNNC
designator C?, comment 100pF
CAP CER 100PF 50V NP0 1206; Part Number: CL31C101JBCNNNC; Manufacturer: Samsung Electro-Mechanics America, Inc.; TemperatureRange: -55C ~ 125C; TemperatureCoefficient: C0G, NP0; Tolerance: 5%; Value: 100pF; PartId: 16981; Supplier 1: Digi-Key; Supplier Part Number 1: 1276-1053-2-ND; ComponentLink1Description: Datasheet; ComponentLink1URL: http://www.samsungsem.com/kr/support/product-search/mlcc/__icsFiles/afieldfile/2016/08/18/S_CL31C101JBCNNNC.pdf; ComponentLink2Description: Digi-Key Listing; ComponentLink2URL: https://www.digikey.com/product-detail/en/samsung-electro-mechanics-america-inc/CL31C101JBCNNNC/1276-1053-2-ND/3886711; Voltage: 50V; Price: 0.035; Device Package: 1206 (3216 Metric)
footprint CAP 1206/3216 - 1.0MM
pins: 1, 2

## CL31C101JCCNFNC
designator C?, comment 100pF
CAP CER 100PF 100V NP0 1206; Part Number: CL31C101JCCNFNC; Manufacturer: Samsung Electro-Mechanics America, Inc.; TemperatureRange: -55C ~ 125C; TemperatureCoefficient: C0G, NP0; Tolerance: 5%; Value: 100pF; PartId: 17164; Supplier 1: Digi-Key; Supplier Part Number 1: 1276-2799-2-ND; ComponentLink1Description: Datasheet; ComponentLink1URL: http://www.samsungsem.com/kr/support/product-search/mlcc/__icsFiles/afieldfile/2016/08/18/S_CL31C101JCCNFNC.pdf; ComponentLink2Description: Digi-Key Listing; ComponentLink2URL: https://www.digikey.com/product-detail/en/samsung-electro-mechanics-america-inc/CL31C101JCCNFNC/1276-2799-2-ND/3888457; Voltage: 100V; Price: 0.0388; Device Package: 1206 (3216 Metric)
footprint CAP 1206/3216 - 1.0MM
pins: 1, 2

## CL31C101JCCNNNC
designator C?, comment 100pF
CAP CER 100PF 100V NP0 1206; Part Number: CL31C101JCCNNNC; Manufacturer: Samsung Electro-Mechanics America, Inc.; TemperatureRange: -55C ~ 125C; TemperatureCoefficient: C0G, NP0; Tolerance: 5%; Value: 100pF; PartId: 17169; Supplier 1: Digi-Key; Supplier Part Number 1: 1276-2800-2-ND; ComponentLink1Description: Datasheet; ComponentLink1URL: http://www.samsungsem.com/kr/support/product-search/mlcc/__icsFiles/afieldfile/2016/08/18/S_CL31C101JCCNNNC.pdf; ComponentLink2Description: Digi-Key Listing; ComponentLink2URL: https://www.digikey.com/product-detail/en/samsung-electro-mechanics-america-inc/CL31C101JCCNNNC/1276-2800-2-ND/3888458; Voltage: 100V; Price: 0.0388; Device Package: 1206 (3216 Metric)
footprint CAP 1206/3216 - 1.0MM
pins: 1, 2

## CL31C101JGFNNNE
designator C?, comment 100pF
CAP CER 100PF 500V NP0 1206; Part Number: CL31C101JGFNNNE; Manufacturer: Samsung Electro-Mechanics America, Inc.; TemperatureRange: -55C ~ 125C; TemperatureCoefficient: C0G, NP0; Tolerance: 5%; Value: 100pF; PartId: 15431; Supplier 1: Digi-Key; Supplier Part Number 1: 1276-3196-2-ND; ComponentLink1Description: Datasheet; ComponentLink1URL: http://www.samsungsem.com/kr/support/product-search/mlcc/CL31C101JGFNNNE.jsp; ComponentLink2Description: Digi-Key Listing; ComponentLink2URL: https://www.digikey.com/product-detail/en/samsung-electro-mechanics-america-inc/CL31C101JGFNNNE/1276-3196-2-ND/3888854; Voltage: 500V; Price: 0.044; Device Package: 1206 (3216 Metric)
footprint CAP 1206/3216
pins: 1, 2

## CL31C101JHFNFNE
designator C?, comment 100pF
CAP CER 100PF 630V NP0 1206; Part Number: CL31C101JHFNFNE; Manufacturer: Samsung Electro-Mechanics America, Inc.; TemperatureRange: -55C ~ 125C; TemperatureCoefficient: C0G, NP0; Tolerance: 5%; Value: 100pF; PartId: 15492; Supplier 1: Digi-Key; Supplier Part Number 1: 1276-3197-2-ND; ComponentLink1Description: Datasheet; ComponentLink1URL: http://www.samsungsem.com/kr/support/product-search/mlcc/CL31C101JHFNFNE.jsp; ComponentLink2Description: Digi-Key Listing; ComponentLink2URL: https://www.digikey.com/product-detail/en/samsung-electro-mechanics-america-inc/CL31C101JHFNFNE/1276-3197-2-ND/3888855; Voltage: 630V; Price: 0.044; Device Package: 1206 (3216 Metric)
footprint CAP 1206/3216
pins: 1, 2

## CL31C101JHFNNNE
designator C?, comment 100pF
CAP CER 100PF 630V NP0 1206; Part Number: CL31C101JHFNNNE; Manufacturer: Samsung Electro-Mechanics America, Inc.; TemperatureRange: -55C ~ 125C; TemperatureCoefficient: C0G, NP0; Tolerance: 5%; Value: 100pF; PartId: 15476; Supplier 1: Digi-Key; Supplier Part Number 1: 1276-3198-2-ND; ComponentLink1Description: Datasheet; ComponentLink1URL: http://www.samsungsem.com/kr/support/product-search/mlcc/CL31C101JHFNNNE.jsp; ComponentLink2Description: Digi-Key Listing; ComponentLink2URL: https://www.digikey.com/product-detail/en/samsung-electro-mechanics-america-inc/CL31C101JHFNNNE/1276-3198-2-ND/3888856; Voltage: 630V; Price: 0.044; Device Package: 1206 (3216 Metric)
footprint CAP 1206/3216
pins: 1, 2

## CL31C101JIFNNNE
designator C?, comment 100pF
CAP CER 100PF 1KV NP0 1206; Part Number: CL31C101JIFNNNE; Manufacturer: Samsung Electro-Mechanics America, Inc.; TemperatureRange: -55C ~ 125C; TemperatureCoefficient: C0G, NP0; Tolerance: 5%; Voltage: 1000V (1kV); Value: 100pF; PartId: 15447; Supplier 1: Digi-Key; Supplier Part Number 1: 1276-3200-2-ND; ComponentLink1Description: Datasheet; ComponentLink1URL: http://www.samsungsem.com/kr/support/product-search/mlcc/CL31C101JIFNNNE.jsp; ComponentLink2Description: Digi-Key Listing; ComponentLink2URL: https://www.digikey.com/product-detail/en/samsung-electro-mechanics-america-inc/CL31C101JIFNNNE/1276-3200-2-ND/3888858; Price: 0.0547; Device Package: 1206 (3216 Metric)
footprint CAP 1206/3216
pins: 1, 2

## CL31C101JJHNNNE
designator C?, comment 100pF
CAP CER 100PF 2KV NP0 1206; Part Number: CL31C101JJHNNNE; Manufacturer: Samsung Electro-Mechanics America, Inc.; TemperatureRange: -55C ~ 125C; TemperatureCoefficient: C0G, NP0; Tolerance: 5%; Voltage: 2000V (2kV); Value: 100pF; PartId: 15471; Supplier 1: Digi-Key; Supplier Part Number 1: 1276-3201-2-ND; ComponentLink1Description: Datasheet; ComponentLink1URL: http://www.samsungsem.com/kr/support/product-search/mlcc/CL31C101JJHNNNE.jsp; ComponentLink2Description: Digi-Key Listing; ComponentLink2URL: https://www.digikey.com/product-detail/en/samsung-electro-mechanics-america-inc/CL31C101JJHNNNE/1276-3201-2-ND/3888859; Price: 0.0874; Device Package: 1206 (3216 Metric)
footprint CAP 1206/3216
pins: 1, 2

## CL31C101KBCNNNC
designator C?, comment 100pF
CAP CER 100PF 50V NP0 1206; Part Number: CL31C101KBCNNNC; Manufacturer: Samsung Electro-Mechanics America, Inc.; TemperatureRange: -55C ~ 125C; TemperatureCoefficient: C0G, NP0; Tolerance: 10%; Value: 100pF; PartId: 17304; Supplier 1: Digi-Key; Supplier Part Number 1: 1276-2802-2-ND; ComponentLink1Description: Datasheet; ComponentLink1URL: http://www.samsungsem.com/kr/support/product-search/mlcc/__icsFiles/afieldfile/2016/08/18/S_CL31C101KBCNNNC.pdf; ComponentLink2Description: Digi-Key Listing; ComponentLink2URL: https://www.digikey.com/product-detail/en/samsung-electro-mechanics-america-inc/CL31C101KBCNNNC/1276-2802-2-ND/3888460; Voltage: 50V; Price: 0.0339; Device Package: 1206 (3216 Metric)
footprint CAP 1206/3216 - 1.0MM
pins: 1, 2

## CL31C101KGFNNNE
designator C?, comment 100pF
CAP CER 100PF 500V NP0 1206; Part Number: CL31C101KGFNNNE; Manufacturer: Samsung Electro-Mechanics America, Inc.; TemperatureRange: -55C ~ 125C; TemperatureCoefficient: C0G, NP0; Tolerance: 10%; Value: 100pF; PartId: 15432; Supplier 1: Digi-Key; Supplier Part Number 1: 1276-3202-2-ND; ComponentLink1Description: Datasheet; ComponentLink1URL: http://www.samsungsem.com/kr/support/product-search/mlcc/CL31C101KGFNNNE.jsp; ComponentLink2Description: Digi-Key Listing; ComponentLink2URL: https://www.digikey.com/product-detail/en/samsung-electro-mechanics-america-inc/CL31C101KGFNNNE/1276-3202-2-ND/3888860; Voltage: 500V; Price: 0.044; Device Package: 1206 (3216 Metric)
footprint CAP 1206/3216
pins: 1, 2

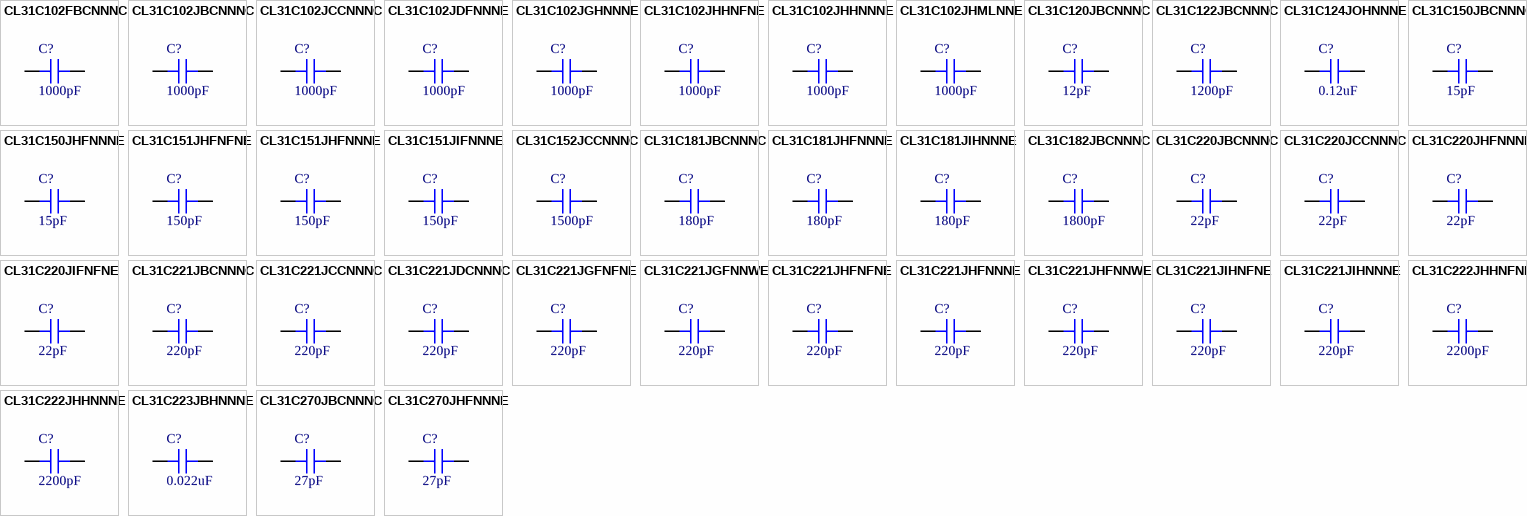
[diagram p30: symbols CL31C102FBCNNNC to CL31C270JHFNNNE]

## CL31C102FBCNNNC
designator C?, comment 1000pF
CAP CER 1000PF 50V NP0 1206; Part Number: CL31C102FBCNNNC; Manufacturer: Samsung Electro-Mechanics America, Inc.; TemperatureRange: -55C ~ 125C; TemperatureCoefficient: C0G, NP0; Tolerance: 1%; Value: 1000pF; PartId: 16975; Supplier 1: Digi-Key; Supplier Part Number 1: 1276-2803-2-ND; ComponentLink1Description: Datasheet; ComponentLink1URL: //media.digikey.com/pdf/Data%20Sheets/Samsung%20PDFs/CL31C102FBCNNNC_Spec.pdf; ComponentLink2Description: Digi-Key Listing; ComponentLink2URL: https://www.digikey.com/product-detail/en/samsung-electro-mechanics-america-inc/CL31C102FBCNNNC/1276-2803-2-ND/3888461; Voltage: 50V; Price: 0.2031; Device Package: 1206 (3216 Metric)
footprint CAP 1206/3216 - 1.0MM
pins: 1, 2